# Altium schematic symbol library EL-sense_Multivibrator.SchLib: 1 symbol
Pins are listed as number, name and electrical type; pins without a type are passive.

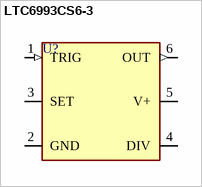
[diagram p0: symbol LTC6993CS6-3]

## LTC6993CS6-3
designator U?
pins: 1 TRIG (in), 2 GND (power), 3 SET, 4 DIV, 5 V+ (power), 6 OUT (out)